# EAGLE library part TPA2012D2 (library AudioStream)
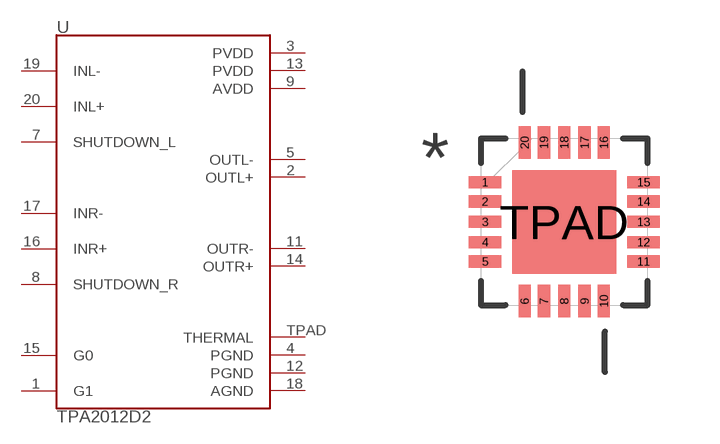
[diagram p3: symbol with the pads of QFN50P400X400X100-21N; footprint QFN50P400X400X100-21N]

Designator prefix U

## TPA2012D2  [QFN50P400X400X100-21N]
1  G1  in
2  OUTL+  out
3  PVDD  sup
4  PGND  sup
5  OUTL-  out
7  SHUTDOWN_L  in
8  SHUTDOWN_R  in
9  AVDD  sup
11  OUTR-  out
12  PGND  sup
13  PVDD  sup
14  OUTR+  out
15  G0  in
16  INR+  in
17  INR-  in
18  AGND  sup
19  INL-  in
20  INL+  in
TPAD  THERMAL  sup

## Footprint QFN50P400X400X100-21N (pad centres in mm)
smd 0.813 x 0.305: 1 -1.981,0.991; 2 -1.981,0.508; 3 -1.981,0; 4 -1.981,-0.508; 5 -1.981,-0.991; 11 1.981,-0.991; 12 1.981,-0.508; 13 1.981,0; 14 1.981,0.508; 15 1.981,0.991
smd 0.305 x 0.813: 6 -0.991,-1.981; 7 -0.508,-1.981; 8 0,-1.981; 9 0.508,-1.981; 10 0.991,-1.981; 16 0.991,1.981; 17 0.508,1.981; 18 0,1.981; 19 -0.508,1.981; 20 -0.991,1.981
smd 2.591 x 2.591: TPAD 0,0